# Altium footprint library FUSES.PcbLib: 2 footprints
Each footprint in its own frame and in the unit in brackets; x right, y up, seen from the top. Pads: shape width x height; smd on the part's side, far side on the other; paste and mask are expansions set on the pad; w line width, h text height; cw(c..) or ccw(c..) is an arc to the next point about the centre after c.
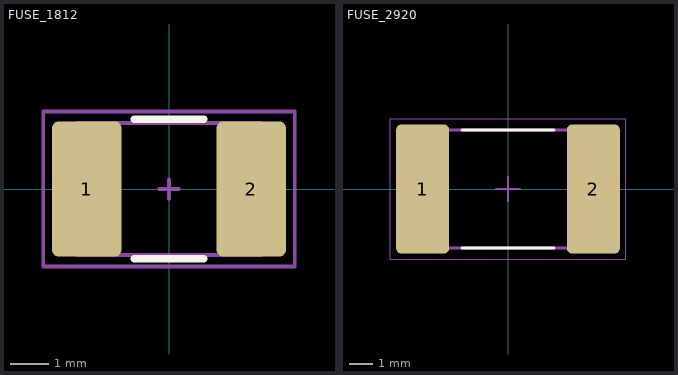
[diagram p0: the footprints below, top view; thin cyan lines are the x and y axes]

## FUSE_1812 [mm] "PTC fuse, 1812, height depends on part number, max 1.55mm"
height 1.55
pads (2):
  rrect20% 1.8x3.5 smd: 1(-2.125,0) 2(2.125,0)
Top Overlay:
  lines w0.2: -0.9,-1.8 0.9,-1.8 ; -0.9,1.8 0.9,1.8
Mechanical 13:
  lines w0.1: -2.365,-1.705 2.365,-1.705 2.365,1.705 -2.365,1.705 -2.365,-1.705
Mechanical 15:
  lines w0.1: -0.25,0 0.25,0 ; 0,-0.25 0,0.25 ; -3.25,-2 -3.25,2 3.25,2 3.25,-2 -3.25,-2
3D body: height 1.55, standoff 0, extent -2.365,-1.705 2.365,1.705

## FUSE_2920 [mm] "PTC Reset Fuse"
height 0.9
pads (2):
  rrect20% 2.3x5.6 smd: 1(-3.7,0) 2(3.7,0)
Top Overlay:
  lines w0.127: -2,-2.56 2,-2.56 ; -2,2.56 2,2.56
Mechanical 13:
  lines w0.127: -3.68,-2.56 3.68,-2.56 3.68,2.56 -3.68,2.56 -3.68,-2.56
Mechanical 15:
  lines w0.05: -5.1,-3.05 -5.1,3.05 5.1,3.05 5.1,-3.05 -5.1,-3.05
  lines w0.1: -0.508,0 0.508,0 ; 0,-0.508 0,0.508
3D body: height 0.9, standoff 0, extent -3.68,-2.56 3.68,2.56